# Altium schematic symbol library ResBasic_No_Place.SchLib: 1 symbol
Pins are listed as number, name and electrical type; pins without a type are passive.

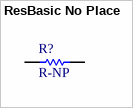
[diagram p0: symbol ResBasic No Place]

## ResBasic No Place
designator R?, comment R-NP  (no BOM)
No Place Resistor
simulation model RESISTOR (Resistor)
signal-integrity model Res
footprint 0805-RES
pins: 1, 2